# Altium schematic symbol library AM3358BZCZ100.Schlib: 1 symbol
Pins are listed as number, name and electrical type; pins without a type are passive.

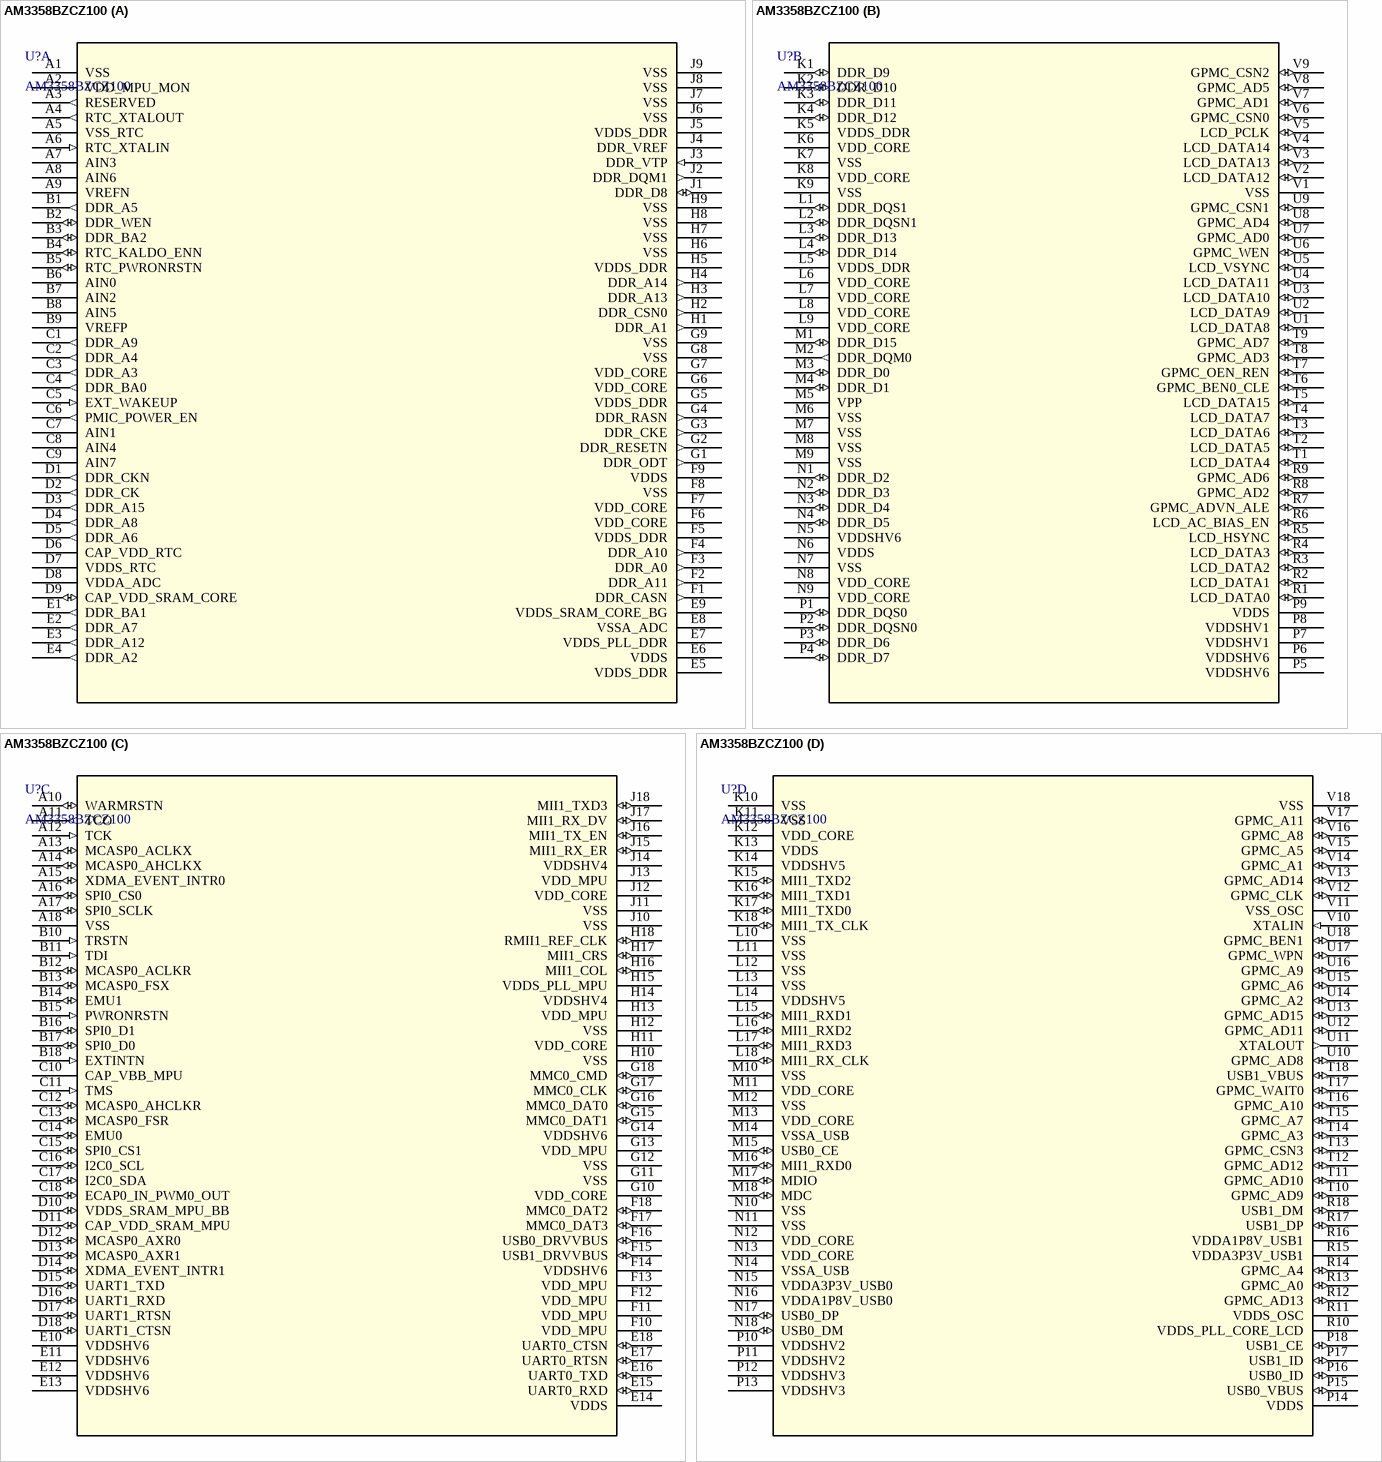
[diagram p0: symbol AM3358BZCZ100]

## AM3358BZCZ100
designator U?
ARM Cortex-A8 Microprocessor
part A pins: A1 VSS (power), A2 VDD_MPU_MON (power), A3 RESERVED (out), A4 RTC_XTALOUT (out), A5 VSS_RTC (power), A6 RTC_XTALIN (in), A7 AIN3, A8 AIN6, A9 VREFN (power), B1 DDR_A5 (out), B2 DDR_WEN (io), B3 DDR_BA2 (io), B4 RTC_KALDO_ENN (io), B5 RTC_PWRONRSTN (io), B6 AIN0, B7 AIN2, B8 AIN5, B9 VREFP (power), C1 DDR_A9 (out), C2 DDR_A4 (out), C3 DDR_A3 (out), C4 DDR_BA0 (out), C5 EXT_WAKEUP (in), C6 PMIC_POWER_EN (out), C7 AIN1, C8 AIN4, C9 AIN7, D1 DDR_CKN (out), D2 DDR_CK (out), D3 DDR_A15 (out), D4 DDR_A8 (out), D5 DDR_A6 (out), D6 CAP_VDD_RTC, D7 VDDS_RTC (power), D8 VDDA_ADC (power), D9 CAP_VDD_SRAM_CORE (io), E1 DDR_BA1 (out), E2 DDR_A7 (out), E3 DDR_A12 (out), E4 DDR_A2 (out), E5 VDDS_DDR (power), E6 VDDS (power), E7 VDDS_PLL_DDR (power), E8 VSSA_ADC (power), E9 VDDS_SRAM_CORE_BG (power), F1 DDR_CASN (out), F2 DDR_A11 (out), F3 DDR_A0 (out), F4 DDR_A10 (out), F5 VDDS_DDR (power), F6 VDD_CORE (power), F7 VDD_CORE (power), F8 VSS (power), F9 VDDS (power), G1 DDR_ODT (out), G2 DDR_RESETN (out), G3 DDR_CKE (out), G4 DDR_RASN (out), G5 VDDS_DDR (power), G6 VDD_CORE (power), G7 VDD_CORE (power), G8 VSS (power), G9 VSS (power), H1 DDR_A1 (out), H2 DDR_CSN0 (out), H3 DDR_A13 (out), H4 DDR_A14 (out), H5 VDDS_DDR (power), H6 VSS (power), H7 VSS (power), H8 VSS (power), H9 VSS (power), J1 DDR_D8 (io), J2 DDR_DQM1 (out), J3 DDR_VTP (in), J4 DDR_VREF, J5 VDDS_DDR (power), J6 VSS (power), J7 VSS (power), J8 VSS (power), J9 VSS (power)
part B pins: K1 DDR_D9 (io), K2 DDR_D10 (io), K3 DDR_D11 (io), K4 DDR_D12 (io), K5 VDDS_DDR (power), K6 VDD_CORE (power), K7 VSS (power), K8 VDD_CORE (power), K9 VSS (power), L1 DDR_DQS1 (io), L2 DDR_DQSN1 (io), L3 DDR_D13 (io), L4 DDR_D14 (io), L5 VDDS_DDR (power), L6 VDD_CORE (power), L7 VDD_CORE (power), L8 VDD_CORE (power), L9 VDD_CORE (power), M1 DDR_D15 (io), M2 DDR_DQM0 (out), M3 DDR_D0 (io), M4 DDR_D1 (io), M5 VPP (power), M6 VSS (power), M7 VSS (power), M8 VSS (power), M9 VSS (power), N1 DDR_D2 (io), N2 DDR_D3 (io), N3 DDR_D4 (io), N4 DDR_D5 (io), N5 VDDSHV6 (power), N6 VDDS (power), N7 VSS (power), N8 VDD_CORE (power), N9 VDD_CORE (power), P1 DDR_DQS0 (io), P2 DDR_DQSN0 (io), P3 DDR_D6 (io), P4 DDR_D7 (io), P5 VDDSHV6 (power), P6 VDDSHV6 (power), P7 VDDSHV1 (power), P8 VDDSHV1 (power), P9 VDDS (power), R1 LCD_DATA0 (io), R2 LCD_DATA1 (io), R3 LCD_DATA2 (io), R4 LCD_DATA3 (io), R5 LCD_HSYNC (io), R6 LCD_AC_BIAS_EN (io), R7 GPMC_ADVN_ALE (io), R8 GPMC_AD2 (io), R9 GPMC_AD6 (io), T1 LCD_DATA4 (io), T2 LCD_DATA5 (io), T3 LCD_DATA6 (io), T4 LCD_DATA7 (io), T5 LCD_DATA15 (io), T6 GPMC_BEN0_CLE (io), T7 GPMC_OEN_REN (io), T8 GPMC_AD3 (io), T9 GPMC_AD7 (io), U1 LCD_DATA8 (io), U2 LCD_DATA9 (io), U3 LCD_DATA10 (io), U4 LCD_DATA11 (io), U5 LCD_VSYNC (io), U6 GPMC_WEN (io), U7 GPMC_AD0 (io), U8 GPMC_AD4 (io), U9 GPMC_CSN1 (io), V1 VSS (power), V2 LCD_DATA12 (io), V3 LCD_DATA13 (io), V4 LCD_DATA14 (io), V5 LCD_PCLK (io), V6 GPMC_CSN0 (io), V7 GPMC_AD1 (io), V8 GPMC_AD5 (io), V9 GPMC_CSN2 (io)
part C pins: A10 WARMRSTN (io), A11 TCO (out), A12 TCK (in), A13 MCASP0_ACLKX (io), A14 MCASP0_AHCLKX (io), A15 XDMA_EVENT_INTR0 (io), A16 SPI0_CS0 (io), A17 SPI0_SCLK (io), A18 VSS (power), B10 TRSTN (in), B11 TDI (in), B12 MCASP0_ACLKR (io), B13 MCASP0_FSX (io), B14 EMU1 (io), B15 PWRONRSTN (in), B16 SPI0_D1 (io), B17 SPI0_D0 (io), B18 EXTINTN (in), C10 CAP_VBB_MPU, C11 TMS (in), C12 MCASP0_AHCLKR (io), C13 MCASP0_FSR (io), C14 EMU0 (io), C15 SPI0_CS1 (io), C16 I2C0_SCL (io), C17 I2C0_SDA (io), C18 ECAP0_IN_PWM0_OUT (io), D10 VDDS_SRAM_MPU_BB (io), D11 CAP_VDD_SRAM_MPU (io), D12 MCASP0_AXR0 (io), D13 MCASP0_AXR1 (io), D14 XDMA_EVENT_INTR1 (io), D15 UART1_TXD (io), D16 UART1_RXD (io), D17 UART1_RTSN (io), D18 UART1_CTSN (io), E10 VDDSHV6 (power), E11 VDDSHV6 (power), E12 VDDSHV6 (power), E13 VDDSHV6 (power), E14 VDDS (power), E15 UART0_RXD (io), E16 UART0_TXD (io), E17 UART0_RTSN (io), E18 UART0_CTSN (io), F10 VDD_MPU (power), F11 VDD_MPU (power), F12 VDD_MPU (power), F13 VDD_MPU (power), F14 VDDSHV6 (power), F15 USB1_DRVVBUS (io), F16 USB0_DRVVBUS (io), F17 MMC0_DAT3 (io), F18 MMC0_DAT2 (io), G10 VDD_CORE (power), G11 VSS (power), G12 VSS (power), G13 VDD_MPU (power), G14 VDDSHV6 (power), G15 MMC0_DAT1 (io), G16 MMC0_DAT0 (io), G17 MMC0_CLK (io), G18 MMC0_CMD (io), H10 VSS (power), H11 VDD_CORE (power), H12 VSS (power), H13 VDD_MPU (power), H14 VDDSHV4 (power), H15 VDDS_PLL_MPU (power), H16 MII1_COL (io), H17 MII1_CRS (io), H18 RMII1_REF_CLK (io), J10 VSS (power), J11 VSS (power), J12 VDD_CORE (power), J13 VDD_MPU (power), J14 VDDSHV4 (power), J15 MII1_RX_ER (io), J16 MII1_TX_EN (io), J17 MII1_RX_DV (io), J18 MII1_TXD3 (io)
part D pins: K10 VSS (power), K11 VSS (power), K12 VDD_CORE (power), K13 VDDS (power), K14 VDDSHV5 (power), K15 MII1_TXD2 (io), K16 MII1_TXD1 (io), K17 MII1_TXD0 (io), K18 MII1_TX_CLK (io), L10 VSS (power), L11 VSS (power), L12 VSS (power), L13 VSS (power), L14 VDDSHV5 (power), L15 MII1_RXD1 (io), L16 MII1_RXD2 (io), L17 MII1_RXD3 (io), L18 MII1_RX_CLK (io), M10 VSS (power), M11 VDD_CORE (power), M12 VSS (power), M13 VDD_CORE (power), M14 VSSA_USB (power), M15 USB0_CE (io), M16 MII1_RXD0 (io), M17 MDIO (io), M18 MDC (io), N10 VSS (power), N11 VSS (power), N12 VDD_CORE (power), N13 VDD_CORE (power), N14 VSSA_USB (power), N15 VDDA3P3V_USB0 (power), N16 VDDA1P8V_USB0 (power), N17 USB0_DP (io), N18 USB0_DM (io), P10 VDDSHV2 (power), P11 VDDSHV2 (power), P12 VDDSHV3 (power), P13 VDDSHV3 (power), P14 VDDS (power), P15 USB0_VBUS (io), P16 USB0_ID (io), P17 USB1_ID (io), P18 USB1_CE (io), R10 VDDS_PLL_CORE_LCD (power), R11 VDDS_OSC (power), R12 GPMC_AD13 (io), R13 GPMC_A0 (io), R14 GPMC_A4 (io), R15 VDDA3P3V_USB1 (power), R16 VDDA1P8V_USB1 (power), R17 USB1_DP (io), R18 USB1_DM (io), T10 GPMC_AD9 (io), T11 GPMC_AD10 (io), T12 GPMC_AD12 (io), T13 GPMC_CSN3 (io), T14 GPMC_A3 (io), T15 GPMC_A7 (io), T16 GPMC_A10 (io), T17 GPMC_WAIT0 (io), T18 USB1_VBUS (io), U10 GPMC_AD8 (io), U11 XTALOUT (out), U12 GPMC_AD11 (io), U13 GPMC_AD15 (io), U14 GPMC_A2 (io), U15 GPMC_A6 (io), U16 GPMC_A9 (io), U17 GPMC_WPN (io), U18 GPMC_BEN1 (io), V10 XTALIN (in), V11 VSS_OSC (power), V12 GPMC_CLK (io), V13 GPMC_AD14 (io), V14 GPMC_A1 (io), V15 GPMC_A5 (io), V16 GPMC_A8 (io), V17 GPMC_A11 (io), V18 VSS (power)